# Altium footprint library espardino_xpress_footprints.PcbLib: 2 footprints
Each footprint in its own frame and in the unit in brackets; x right, y up, seen from the top. Pads: shape width x height; smd on the part's side, far side on the other; paste and mask are expansions set on the pad; w line width, h text height; cw(c..) or ccw(c..) is an arc to the next point about the centre after c.
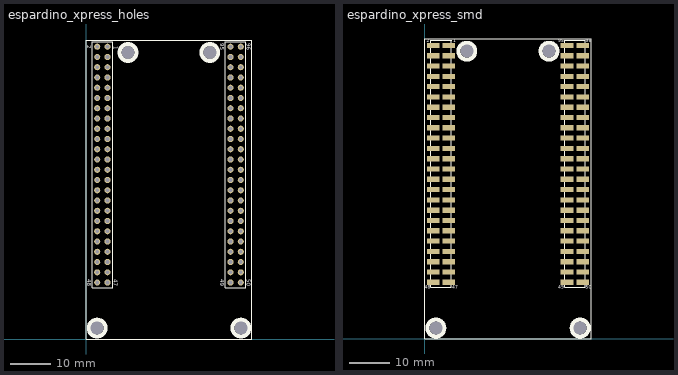
[diagram p0: the footprints below, top view; thin cyan lines are the x and y axes]

## espardino_xpress_holes [mm] "espardino_xpress footprint with through-hole connectors"
pads (100):
  round 1.524 hole 3.2: 0(2.7,2.7) 0(10.34,70.99) 0(30.61,70.99) 0(38.3,2.7)
  round 1.5 hole 0.9: 1(5.26,72.41) 2(2.72,72.41) 3(5.26,69.87) 4(2.72,69.87) 5(5.26,67.33) 6(2.72,67.33) 7(5.26,64.79) 8(2.72,64.79) 9(5.26,62.25) 10(2.72,62.25) 11(5.26,59.71) 12(2.72,59.71) 13(5.26,57.17) 14(2.72,57.17) 15(5.26,54.63) 16(2.72,54.63) 17(5.26,52.09) 18(2.72,52.09) 19(5.26,49.55) 20(2.72,49.55) 21(5.26,47.01) 22(2.72,47.01) 23(5.26,44.47) 24(2.72,44.47) 25(5.26,41.93) 26(2.72,41.93) 27(5.26,39.39) 28(2.72,39.39) 29(5.26,36.85) 30(2.72,36.85) 31(5.26,34.31) 32(2.72,34.31) 33(5.26,31.77) 34(2.72,31.77) 35(5.26,29.23) 36(2.72,29.23) 37(5.26,26.69) 38(2.72,26.69) 39(5.26,24.15) 40(2.72,24.15) 41(5.26,21.61) 42(2.72,21.61) 43(5.26,19.07) 44(2.72,19.07) 45(5.26,16.53) 46(2.72,16.53) 47(5.26,13.99) 48(2.72,13.99) 49(35.74,13.99) 50(38.28,13.99) 51(35.74,16.53) 52(38.28,16.53) 53(35.74,19.07) 54(38.28,19.07) 55(35.74,21.61) 56(38.28,21.61) 57(35.74,24.15) 58(38.28,24.15) 59(35.74,26.69) 60(38.28,26.69) 61(35.74,29.23) 62(38.28,29.23) 63(35.74,31.77) 64(38.28,31.77) 65(35.74,34.31) 66(38.28,34.31) 67(35.74,36.85) 68(38.28,36.85) 69(35.74,39.39) 70(38.28,39.39) 71(35.74,41.93) 72(38.28,41.93) 73(35.74,44.47) 74(38.28,44.47) 75(35.74,47.01) 76(38.28,47.01) 77(35.74,49.55) 78(38.28,49.55) 79(35.74,52.09) 80(38.28,52.09) 81(35.74,54.63) 82(38.28,54.63) 83(35.74,57.17) 84(38.28,57.17) 85(35.74,59.71) 86(38.28,59.71) 87(35.74,62.25) 88(38.28,62.25) 89(35.74,64.79) 90(38.28,64.79) 91(35.74,67.33) 92(38.28,67.33) 93(35.74,69.87) 94(38.28,69.87) 95(35.74,72.41) 96(38.28,72.41)
Top Overlay:
  circle w1: c2.7,2.7 r2.074
  circle w1: c38.3,2.7 r2.074
  circle w1: c10.34,70.99 r2.074
  circle w1: c30.61,70.99 r2.074
  lines w0.2: 0,0 41,0 41,74 0,74 0,0 ; 1.45,12.72 6.53,12.72 6.53,73.68 1.45,73.68 1.45,12.72 ; 34.47,12.72 34.47,73.68 39.55,73.68 39.55,12.72 34.47,12.72
  text "48" at 0.22,14.76 h1
  text "2" at 0.22,72.785 h1
  text "47" at 6.77,14.76 h1
  text "96" at 39.78,73.325 h1
  text "95" at 33.24,73.325 h1
  text "50" at 39.78,14.76 h1
  text "49" at 33.24,14.76 h1
  text "1" at 6.77,72.575 h1
3D body: height 8.5, standoff -3, extent 34.47,12.72 39.55,73.68
3D body: height 8.5, standoff -3, extent 1.46,12.72 6.54,73.68

## espardino_xpress_smd [mm] "espardino_xpress footprint with smd connectors"
pads (100):
  round 1.524 hole 3.2: 0(2.7,2.7) 0(10.34,70.99) 0(30.61,70.99) 0(38.3,2.7)
  rect 3.12x1.27 smd: 1(5.91,72.41) 2(2.03,72.41) 3(5.91,69.87) 4(2.03,69.87) 5(5.91,67.33) 6(2.03,67.33) 7(5.91,64.79) 8(2.03,64.79) 9(5.91,62.25) 10(2.03,62.25) 11(5.91,59.71) 12(2.03,59.71) 13(5.91,57.17) 14(2.03,57.17) 15(5.91,54.63) 16(2.03,54.63) 17(5.91,52.09) 18(2.03,52.09) 19(5.91,49.55) 20(2.03,49.55) 21(5.91,47.01) 22(2.03,47.01) 23(5.91,44.47) 24(2.03,44.47) 25(5.91,41.93) 26(2.03,41.93) 27(5.91,39.39) 28(2.03,39.39) 29(5.91,36.85) 30(2.03,36.85) 31(5.91,34.31) 32(2.03,34.31) 33(5.91,31.77) 34(2.03,31.77) 35(5.91,29.23) 36(2.03,29.23) 37(5.91,26.69) 38(2.03,26.69) 39(5.91,24.15) 40(2.03,24.15) 41(5.91,21.61) 42(2.03,21.61) 43(5.91,19.07) 44(2.03,19.07) 45(5.91,16.53) 46(2.03,16.53) 47(5.91,13.99) 48(2.03,13.99) 49(35.05,13.99) 50(38.93,13.99) 51(35.05,16.53) 52(38.93,16.53) 53(35.05,19.07) 54(38.93,19.07) 55(35.05,21.61) 56(38.93,21.61) 57(35.05,24.15) 58(38.93,24.15) 59(35.05,26.69) 60(38.93,26.69) 61(35.05,29.23) 62(38.93,29.23) 63(35.05,31.77) 64(38.93,31.77) 65(35.05,34.31) 66(38.93,34.31) 67(35.05,36.85) 68(38.93,36.85) 69(35.05,39.39) 70(38.93,39.39) 71(35.05,41.93) 72(38.93,41.93) 73(35.05,44.47) 74(38.93,44.47) 75(35.05,47.01) 76(38.93,47.01) 77(35.05,49.55) 78(38.93,49.55) 79(35.05,52.09) 80(38.93,52.09) 81(35.05,54.63) 82(38.93,54.63) 83(35.05,57.17) 84(38.93,57.17) 85(35.05,59.71) 86(38.93,59.71) 87(35.05,62.25) 88(38.93,62.25) 89(35.05,64.79) 90(38.93,64.79) 91(35.05,67.33) 92(38.93,67.33) 93(35.05,69.87) 94(38.93,69.87) 95(35.05,72.41) 96(38.93,72.41)
Top Overlay:
  circle w1: c30.61,70.99 r2.074
  circle w1: c10.34,70.99 r2.074
  circle w1: c38.3,2.7 r2.074
  circle w1: c2.7,2.7 r2.074
  lines w0.2: 1.45,73.68 1.45,12.73 1.46,12.72 6.53,12.72 ; 1.49,73.68 6.57,73.68 ; 6.53,12.74 6.53,73.68 ; 39.55,12.72 34.48,12.72 34.47,12.73 34.47,73.68 39.55,73.68 39.55,12.74 ; 0,0 0,74 41,74 41,0 0,0
  text "49" at 32.89,12.43 h0.8
  text "50" at 39.62,12.43 h0.8
  text "48" at 0.02,12.43 h0.8
  text "47" at 6.73,12.43 h0.8
  text "2" at 0.52,73.14 h0.8
  text "1" at 6.98,73.14 h0.8
  text "96" at 39.64,73.14 h0.8
  text "95" at 32.89,73.14 h0.8
3D body: height 9.64, standoff -0.01, extent 0.478,12.71 7.463,73.67
3D body: height 9.64, standoff -0.01, extent 33.508,12.71 40.493,73.67